# EAGLE library part DIGISPARK (library avr-4)
Digispark Attiny85 based microcontroller development board
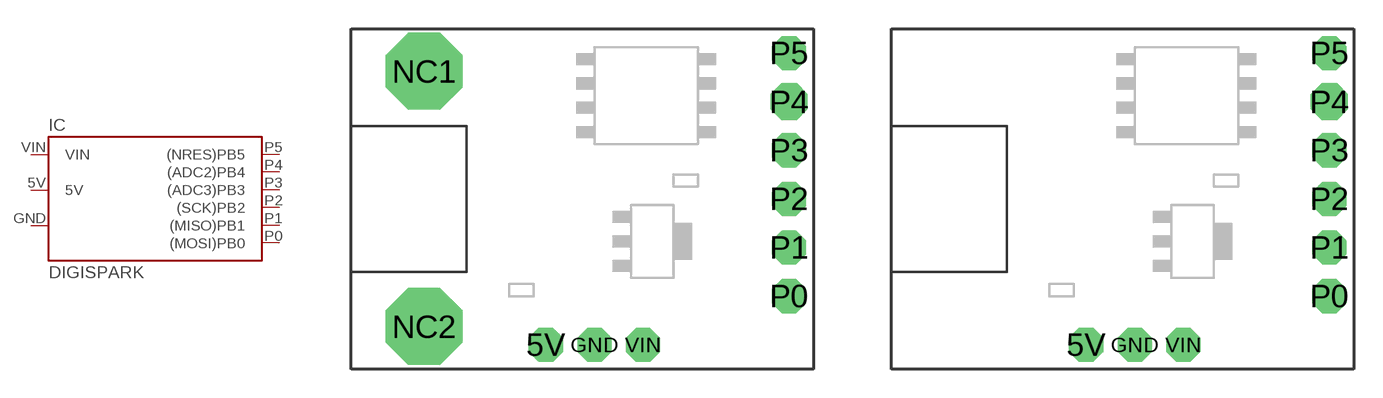
[diagram p56: symbol with the pads of DIGISPARK; footprints DIGISPARK, DIGISPARK-B]

Designator prefix IC

## DIGISPARK  [DIGISPARK]
5V  5V  pwr
GND  G  pwr
P0  (MOSI)PB0
P1  (MISO)PB1
P2  (SCK)PB2
P3  (ADC3)PB3
P4  (ADC2)PB4
P5  (NRES)PB5
VIN  VIN  pwr

## DIGISPARK-B  [DIGISPARK-B]
Pads as for DIGISPARK

## Footprint DIGISPARK (pad centres in mm)
ATTiny85 Digispark board
drill 1.016 pad 1.778 octagon: 5V -2.54,-8.89; GND 0,-8.89; P0 10.16,-6.35; P1 10.16,-3.81; P2 10.16,-1.27; P3 10.16,1.27; P5 10.16,6.35; VIN 2.54,-8.89
drill 3 pad 3.81 octagon: NC1 -8.89,5.397; NC2 -8.89,-7.938
drill 1.016 pad 1.93 octagon: P4 10.16,3.81

## Footprint DIGISPARK-B (pad centres in mm)
ATTiny85 Digispark board - without mount holes
drill 1.016 pad 1.778 octagon: 5V -1.27,-7.62; GND 1.27,-7.62; P0 11.43,-5.08; P1 11.43,-2.54; P2 11.43,0; P3 11.43,2.54; P5 11.43,7.62; VIN 3.81,-7.62
drill 1.016 pad 1.93 octagon: P4 11.43,5.08